# Altium schematic symbol library ECU_AutoRC_r00.SchLib: 48 symbols
Pins are listed as number, name and electrical type; pins without a type are passive.

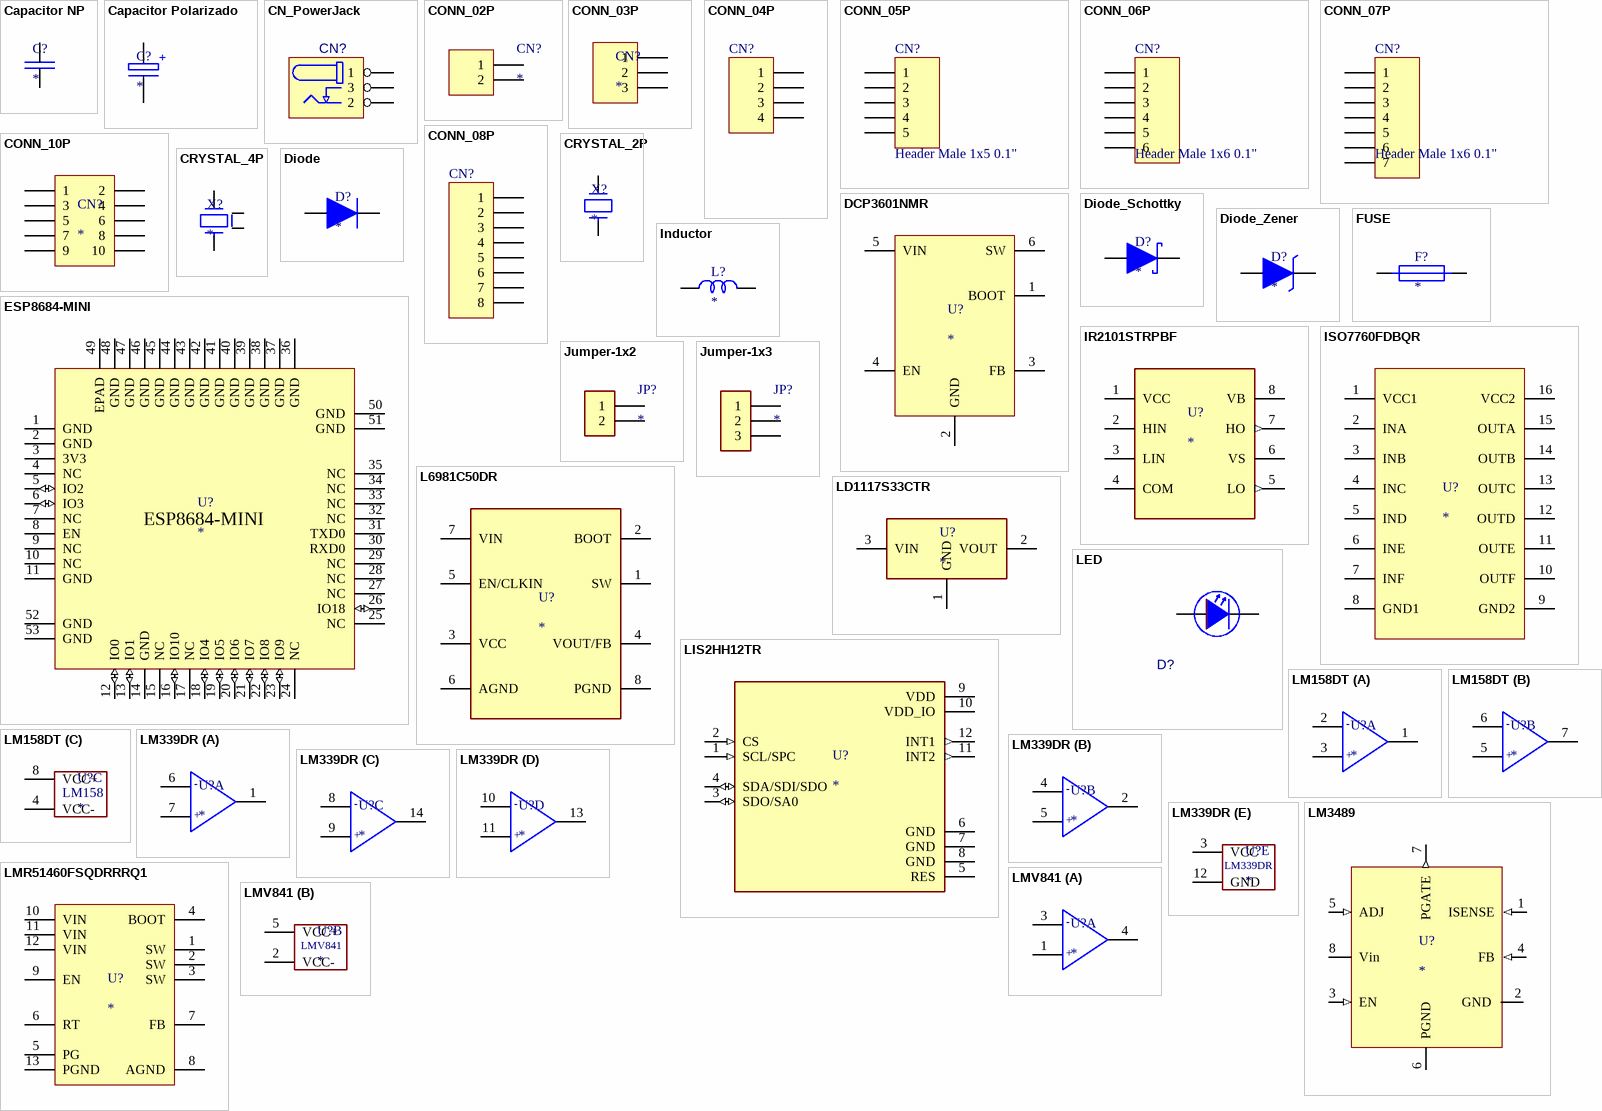
[diagram p0: symbols Capacitor NP to LMV841]

## Capacitor NP
designator C?
Non Polarizated Capacitor
pins: 1, 2

## Capacitor Polarizado
designator C?
Polarizated Capacitor
pins: 1, 2
text: +

## CN_PowerJack
designator CN?
Barrel Power Connector
footprint PJ002B
pins: 1, 2, 3

## CONN_02P
designator CN?
2 Pin Connector
pins: 1, 2

## CONN_03P
designator CN?
3 Pin Connector
pins: 1, 2, 3

## CONN_04P
designator CN?
Connector Generic 4 Vias
pins: 1, 2, 3, 4

## CONN_05P
designator CN?, comment Header Male 1x5 0.1"
Connector Generic 5 Vias
footprint JST_B5B-PH-K-S
pins: 1, 2, 3, 4, 5

## CONN_06P
designator CN?, comment Header Male 1x6 0.1"
Connector Generic 6 Vias
pins: 1, 2, 3, 4, 5, 6

## CONN_07P
designator CN?, comment Header Male 1x6 0.1"
Connector Generic 7 Vias
pins: 1, 2, 3, 4, 5, 6, 7

## CONN_08P
designator CN?
Connector Generic 8 Vias
pins: 1, 2, 3, 4, 5, 6, 7, 8

## CONN_10P
designator CN?
Connector Generic 10 Vias
footprint HEADER_M_2X5_2.54MM
pins: 1, 2, 3, 4, 5, 6, 7, 8, 9, 10

## CRYSTAL_2P
designator X?
Xtal 2 Ports
footprint XTAL_2N_ECS-801830
pins: 1, 2

## CRYSTAL_4P
designator X?
Xtal 4 Ports
footprint XTAL_4N_ECS-80-10
pins: 1, 2, 3, 4

## DCP3601NMR
designator U?
pins: 1 BOOT, 2 GND, 3 FB, 4 EN, 5 VIN, 6 SW

## Diode
designator D?
Diode
pins: 1 Anode, 2 Catode

## Diode_Schottky
designator D?
Diode Schottky
pins: 1 Anode, 2 Catode

## Diode_Zener
designator D?
Diode Zener
pins: 1 Anode, 2 Catode

## ESP8684-MINI
designator U?
footprint ESP8684-MINI
pins: 1 GND, 2 GND, 3 3V3, 4 NC, 5 IO2 (io), 6 IO3 (io), 7 NC, 8 EN, 9 NC, 10 NC, 11 GND, 12 IO0 (io), 13 IO1 (io), 14 GND, 15 NC, 16 IO10 (io), 17 NC, 18 IO4 (io), 19 IO5 (io), 20 IO6 (io), 21 IO7 (io), 22 IO8 (io), 23 IO9 (io), 24 NC, 25 NC, 26 IO18 (io), 27 NC, 28 NC, 29 NC, 30 RXD0, 31 TXD0, 32 NC, 33 NC, 34 NC, 35 NC, 36 GND, 37 GND, 38 GND, 39 GND, 40 GND, 41 GND, 42 GND, 43 GND, 44 GND, 45 GND, 46 GND, 47 GND, 48 GND, 49 EPAD, 50 GND, 51 GND, 52 GND, 53 GND

## FUSE
designator F?
Fuse | Quick Acting; MF: Bel Fuse; MP: 0679L1000-05; SnapEDA_Link: https://www.snapeda.com/parts/0679L1000-05/Bel+Fuse/view-part/?ref=snap; Package: SMD-2; Price: None; Availability: Unavailable; Check_prices: https://www.snapeda.com/parts/0679L1000-05/Bel+Fuse/view-part/?ref=eda; Value: *
footprint FUSC6125X279N
pins: 1, 2

## Inductor
designator L?
Inductor
pins: 1, 2

## IR2101STRPBF
designator U?
Half-Bridge Gate Driver IC Non-Inverting 8-SOIC
footprint IC_8SOIC
pins: 1 VCC, 2 HIN, 3 LIN, 4 COM, 5 LO (out), 6 VS, 7 HO (out), 8 VB

## ISO7760FDBQR
designator U?
DGTL ISOLTR 3KV 6CH GP 16-SSOP
footprint 16-SSOP
pins: 1 VCC1, 2 INA, 3 INB, 4 INC, 5 IND, 6 INE, 7 INF, 8 GND1, 9 GND2, 10 OUTF, 11 OUTE, 12 OUTD, 13 OUTC, 14 OUTB, 15 OUTA, 16 VCC2

## Jumper-1x2
designator JP?
pins: 1, 2

## Jumper-1x3
designator JP?
pins: 1, 2, 3

## L6981C50DR
designator U?
IC REG BUCK 5V 1.5A 8SO
footprint 8-SOIC
pins: 1 SW, 2 BOOT, 3 VCC, 4 VOUT/FB, 5 EN/CLKIN, 6 AGND, 7 VIN, 8 PGND

## LD1117S33CTR
designator U?
IC REG LINEAR 3.3V 800MA SOT-223
pins: 1 GND, 2 VOUT, 3 VIN

## LED
designator D?
LED
footprint LED_0805
pins: 1 A, 2 K

## LIS2HH12TR
designator U?
Accelerometer X, Y, Z Axis Â±2g, 4g, 8g 5Hz ~ 400Hz 12-LGA _2x2_; MP: LIS2HH12TR; MF: STMicroelectronics; Value: *; SnapEDA_Link: https://www.snapeda.com/parts/LIS2HH12TR/STMicroelectronics/view-part/552242/?ref=snap; Availability: Unavailable; Package: LGA-12 STMicroelectronics; Price: None
footprint PQFN50P200X200X100-12N
pins: 1 SCL/SPC (in), 2 CS (in), 3 SDO/SA0 (io), 4 SDA/SDI/SDO (io), 5 RES (power), 6 GND (power), 7 GND (power), 8 GND (power), 9 VDD (power), 10 VDD_IO (power), 11 INT2 (out), 12 INT1 (out)

## LM158DT
designator U?
Intrumentation Amplifier
footprint IC_SO8
part A pins: 1 OUT1, 2 IN1-, 3 IN1+
part B pins: 5 IN2+, 6 IN2-, 7 OUT2
part C pins: 4 VCC- (power), 8 VCC+ (power)
part A text: -; +
part B text: -; +
part C text: LM158

## LM339DR
designator U?
Comparator Standard Open-Collector 14-SOIC
footprint SOIC14
part A pins: 1 OUT1, 6 IN1-, 7 IN1+
part B pins: 2 OUT2, 4 IN2-, 5 IN2+
part C pins: 8 IN3-, 9 IN3+, 14 OUT3
part D pins: 10 IN4-, 11 IN4+, 13 OUT4
part E pins: 3 VCC (power), 12 GND (power)
part A text: -; +
part B text: -; +
part C text: -; +
part D text: -; +

## LM3489
designator U?
UC Step-Down
footprint LM3489_SOP65-8N
pins: 1 ISENSE (in), 2 GND (power), 3 EN (in), 4 FB (in), 5 ADJ (in), 6 PGND (power), 7 PGATE (out), 8 Vin (power)

## LMR51460FSQDRRRQ1
designator U?
IC REG BUCK ADJ 6A 12WSON
footprint LMR51460FSQDRRRQ1
pins: 1 SW, 2 SW, 3 SW, 4 BOOT, 5 PG (oe), 6 RT, 7 FB, 8 AGND, 9 EN, 10 VIN, 11 VIN, 12 VIN, 13 PGND

## LMV841
designator U?
Low Power Amplifier
footprint LMV851_SOT65-5N
part A pins: 1 IN1+, 3 IN1-, 4 OUT1
part B pins: 2 VCC- (power), 5 VCC+ (power)
part A text: -; +

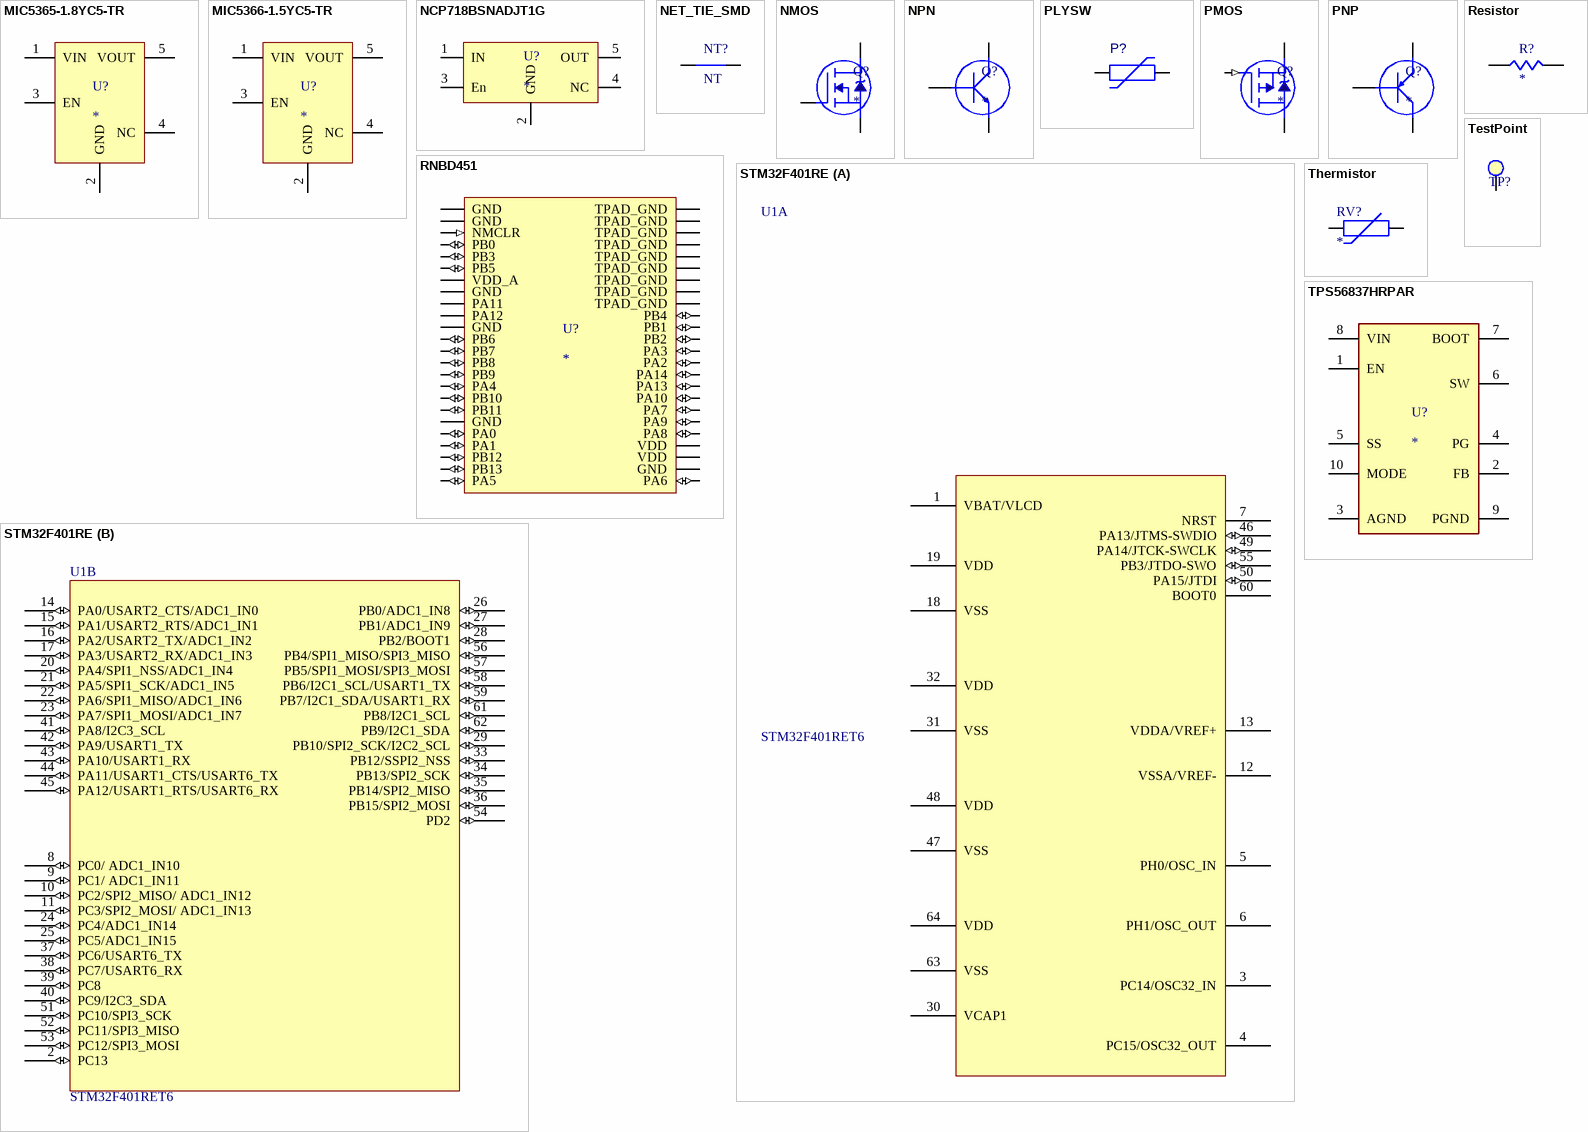
[diagram p1: symbols MIC5365-1.8YC5-TR to TPS56837HRPAR]

## MIC5365-1.8YC5-TR
designator U?
IC REG LINEAR 1.8V 150MA SC-70-5
footprint SC 70-5
pins: 1 VIN, 2 GND, 3 EN, 4 NC, 5 VOUT

## MIC5366-1.5YC5-TR
designator U?
IC REG LINEAR 1.5V 150MA SC-70-5
footprint SC 70-5
pins: 1 VIN, 2 GND, 3 EN, 4 NC, 5 VOUT

## NCP718BSNADJT1G
designator U?
Linear Regulator
footprint IC_SOT23-5
pins: 1 IN (power), 2 GND (power), 3 En, 4 NC, 5 OUT

## NET_TIE_SMD
designator NT?, comment NT
footprint NET_TIE
pins: 1, 2

## NMOS
designator Q?
Mosfet N
pins: 1 GATE, 2 DRAIN, 3 SOURCE

## NPN
designator Q?
TBJ NPN
pins: 1, 2, 3

## PLYSW
designator P?
Polyswitch
pins: 1, 2

## PMOS
designator Q?
Mosfet P
pins: 1 GATE (in), 2 SOURCE, 3 DRAIN

## PNP
designator Q?
TBJ PNP
pins: 1, 2, 3

## Resistor
designator R?
Resistor
pins: 1, 2

## RNBD451
designator U?
Bluetooth Module
footprint RNBD451PE-I100
pins: 1 GND (power), 2 GND (power), 3 NMCLR (in), 4 PB0 (io), 5 PB3 (io), 6 PB5 (io), 7 VDD_A (power), 8 GND (power), 9 PA11, 10 PA12, 11 GND (power), 12 PB6 (io), 13 PB7 (io), 14 PB8 (io), 15 PB9 (io), 16 PA4 (io), 17 PB10 (io), 18 PB11 (io), 19 GND (power), 20 PA0 (io), 21 PA1 (io), 22 PB12 (io), 23 PB13 (io), 24 PA5 (io), 25 PA6 (io), 26 GND (power), 27 VDD (power), 28 VDD (power), 29 PA8 (io), 30 PA9 (io), 31 PA7 (io), 32 PA10 (io), 33 PA13 (io), 34 PA14 (io), 35 PA2 (io), 36 PA3 (io), 37 PB2 (io), 38 PB1 (io), 39 PB4 (io), 40 TPAD_GND, 41 TPAD_GND (power), 42 TPAD_GND (power), 43 TPAD_GND (power), 44 TPAD_GND (power), 45 TPAD_GND (power), 46 TPAD_GND (power), 47 TPAD_GND (power), 48 TPAD_GND (power)

## STM32F401RE
designator U1, comment STM32F401RET6
STM32 Microcontroller
footprint STM32F401T6
part A pins: 1 VBAT/VLCD, 3 PC14/OSC32_IN, 4 PC15/OSC32_OUT, 5 PH0/OSC_IN, 6 PH1/OSC_OUT, 7 NRST, 12 VSSA/VREF-, 13 VDDA/VREF+, 18 VSS, 19 VDD, 30 VCAP1, 31 VSS, 32 VDD, 46 PA13/JTMS-SWDIO (io), 47 VSS, 48 VDD, 49 PA14/JTCK-SWCLK (io), 50 PA15/JTDI (io), 55 PB3/JTDO-SWO (io), 60 BOOT0, 63 VSS, 64 VDD
part B pins: 2 PC13 (io), 8 PC0/ ADC1_IN10 (io), 9 PC1/ ADC1_IN11 (io), 10 PC2/SPI2_MISO/ ADC1_IN12 (io), 11 PC3/SPI2_MOSI/ ADC1_IN13 (io), 14 PA0/USART2_CTS/ADC1_IN0 (io), 15 PA1/USART2_RTS/ADC1_IN1 (io), 16 PA2/USART2_TX/ADC1_IN2 (io), 17 PA3/USART2_RX/ADC1_IN3 (io), 20 PA4/SPI1_NSS/ADC1_IN4 (io), 21 PA5/SPI1_SCK/ADC1_IN5 (io), 22 PA6/SPI1_MISO/ADC1_IN6 (io), 23 PA7/SPI1_MOSI/ADC1_IN7 (io), 24 PC4/ADC1_IN14 (io), 25 PC5/ADC1_IN15 (io), 26 PB0/ADC1_IN8 (io), 27 PB1/ADC1_IN9 (io), 28 PB2/BOOT1 (io), 29 PB10/SPI2_SCK/I2C2_SCL (io), 33 PB12/SSPI2_NSS (io), 34 PB13/SPI2_SCK (io), 35 PB14/SPI2_MISO (io), 36 PB15/SPI2_MOSI (io), 37 PC6/USART6_TX (io), 38 PC7/USART6_RX (io), 39 PC8 (io), 40 PC9/I2C3_SDA (io), 41 PA8/I2C3_SCL (io), 42 PA9/USART1_TX (io), 43 PA10/USART1_RX (io), 44 PA11/USART1_CTS/USART6_TX (io), 45 PA12/USART1_RTS/USART6_RX (io), 51 PC10/SPI3_SCK (io), 52 PC11/SPI3_MISO (io), 53 PC12/SPI3_MOSI (io), 54 PD2 (io), 56 PB4/SPI1_MISO/SPI3_MISO (io), 57 PB5/SPI1_MOSI/SPI3_MOSI (io), 58 PB6/I2C1_SCL/USART1_TX (io), 59 PB7/I2C1_SDA/USART1_RX (io), 61 PB8/I2C1_SCL (io), 62 PB9/I2C1_SDA (io)

## TestPoint
designator TP?
Test Point
footprint TEST_POINT
pins: 1

## Thermistor
designator RV?
Thermistor
pins: 1, 2

## TPS56837HRPAR
designator U?
Buck Switching Regulator IC Positive Adjustable 4V 1 Output 8A 10-PowerVFQFN
pins: 1 EN, 2 FB, 3 AGND, 4 PG, 5 SS, 6 SW, 7 BOOT, 8 VIN, 9 PGND, 10 MODE